# EAGLE library part LM3668 (library .packages(ti))
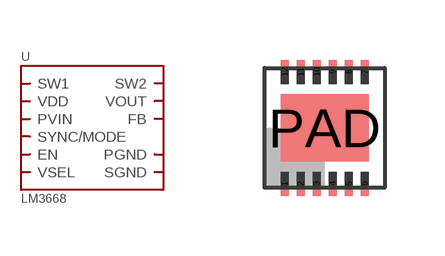
[diagram p3: symbol with the pads of LLP.12.3X3MM; footprint LLP.12.3X3MM]

Designator prefix -

## LM3668  [LLP.12.3X3MM]
1  VOUT
2  SW2
3  PGND
4  SW1
5  PVIN
6  EN
7  VDD
8  SGND
9  SGND
10  SYNC/MODE
11  VSEL
12  FB
PAD  SGND

## Footprint LLP.12.3X3MM (pad centres in mm)
smd 0.2 x 0.6: 1 -1,-1.4; 2 -0.6,-1.4; 3 -0.2,-1.4; 4 0.2,-1.4; 5 0.6,-1.4; 6 1,-1.4; 7 1,1.4; 8 0.6,1.4; 9 0.2,1.4; 10 -0.2,1.4; 11 -0.6,1.4; 12 -1,1.4
smd 2.2 x 1.68: PAD 0,0